# Altium schematic symbol library OP292GSZ.SchLib: 2 symbols
Pins are listed as number, name and electrical type; pins without a type are passive.

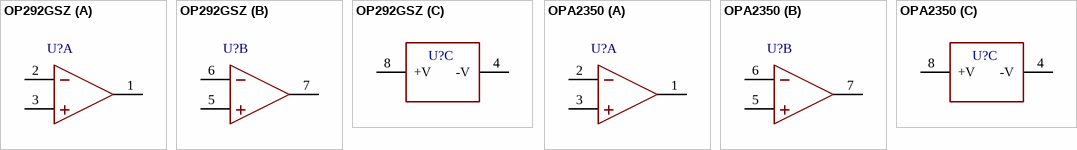
[diagram p0: symbols OP292GSZ to OPA2350]

## OP292GSZ
designator U?
Double Channel Single-Supply Operation Operational Amplifier, 4 MHz BW, 4 V/us SR, Industrial, 8-pin SOIC (R-8), Tube; Generic Part Number: OP292; Manufacturer: Analog Devices; PartNumber: OP292GSZ; Amplifiers Per Package: 2; Input Bias Current: 375nA; Input Offset Voltage: 1mV; Iq/Amp: 1.4mA; Slew Rate: 4V/us; Small Signal Bandwidth: 4MHz; V Span Max: 33V; V Span Min: 4.5V; DatasheetVersion: Rev. C; PackageVersion: 060506-A; PackageReference: R-8; PackageDescription: 8-Pin Standard Small Outline Package, Body 3.9 x 4.9 mm, Pitch 1.27 mm; Supplier 1: Digi-Key; Supplier Part Number 1: OP292GSZ-ND; Supplier 2: Newark; Supplier Part Number 2: 59K8859; Mounting Technology: Surface Mount; Code_JEDEC: MS-012-AA; ComponentLink1Description: Manufacturer URL; ComponentLink1URL: http://www.analog.com/en/index.html; ComponentLink2Description: Datasheet; ComponentLink2URL: http://www.analog.com/static/imported-files/data_sheets/OP292_492.pdf; ComponentLink3Description: Package Specification; ComponentLink3URL: http://www.analog.com/static/imported-files/packages/PKG_PDF/SOIC_Narrow%20(R)/R_8.pdf
footprint ADI-R-8_L (SOIC, 8-Leads, Body 4.9x3.9mm, Pitch 1.27mm, IPC High Density)
footprint ADI-R-8_N (SOIC, 8-Leads, Body 4.9x3.9mm, Pitch 1.27mm, IPC Medium Density)
footprint ADI-R-8_M (SOIC, 8-Leads, Body 4.9x3.9mm, Pitch 1.27mm, IPC Low Density)
part A pins: 1 OUT A (power), 2 -IN A (power), 3 +IN A (power)
part B pins: 5 +IN B (power), 6 -IN B (power), 7 OUT B (power)
part C pins: 4 -V "Termal Pad", 8 +V "Termal Pad"

## OPA2350
designator U?
High-Speed, Single-Supply, Rail-to-Rail / OPERATIONAL AMPLIFIERS; Generic Part Number: OP292; Manufacturer: Analog Devices; PartNumber: OP292GSZ; Amplifiers Per Package: 2; Input Bias Current: 375nA; Input Offset Voltage: 1mV; Iq/Amp: 1.4mA; Slew Rate: 4V/us; Small Signal Bandwidth: 4MHz; V Span Max: 33V; V Span Min: 4.5V; DatasheetVersion: Rev. C; PackageVersion: 060506-A; PackageReference: R-8; PackageDescription: 8-Pin Standard Small Outline Package, Body 3.9 x 4.9 mm, Pitch 1.27 mm; Supplier 1: Digi-Key; Supplier Part Number 1: OP292GSZ-ND; Supplier 2: Newark; Supplier Part Number 2: 59K8859; Mounting Technology: Surface Mount; Code_JEDEC: MS-012-AA; ComponentLink1Description: Manufacturer URL; ComponentLink1URL: http://www.analog.com/en/index.html; ComponentLink2Description: Datasheet; ComponentLink2URL: http://www.analog.com/static/imported-files/data_sheets/OP292_492.pdf; ComponentLink3Description: Package Specification; ComponentLink3URL: http://www.analog.com/static/imported-files/packages/PKG_PDF/SOIC_Narrow%20(R)/R_8.pdf
footprint ADI-R-8_L (SOIC, 8-Leads, Body 4.9x3.9mm, Pitch 1.27mm, IPC High Density)
footprint ADI-R-8_N (SOIC, 8-Leads, Body 4.9x3.9mm, Pitch 1.27mm, IPC Medium Density)
footprint ADI-R-8_M (SOIC, 8-Leads, Body 4.9x3.9mm, Pitch 1.27mm, IPC Low Density)
part A pins: 1 OUT A (power), 2 -IN A (power), 3 +IN A (power)
part B pins: 5 +IN B (power), 6 -IN B (power), 7 OUT B (power)
part C pins: 4 -V "Termal Pad", 8 +V "Termal Pad"